# EAGLE library part SSW-112-02-S-T (library con-samtec)
THROUGH-HOLE .025" SQ POST SOCKET Source: Samtec SSW.pdf
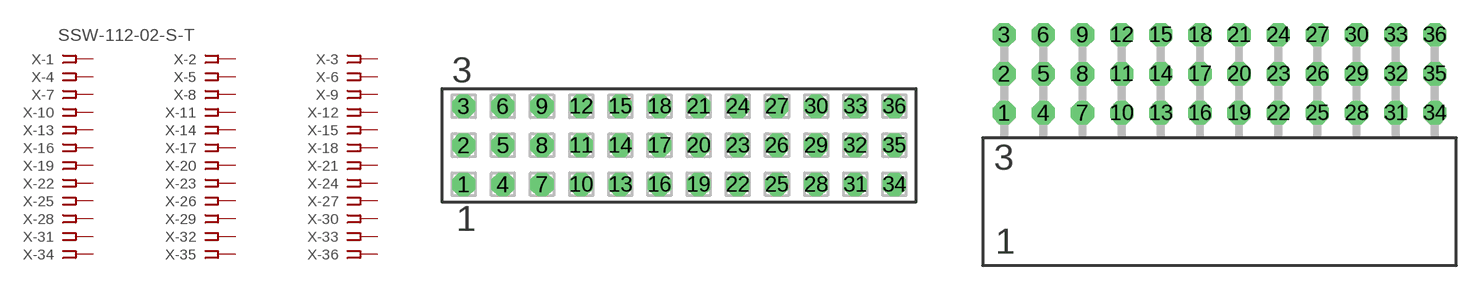
[diagram p44: symbol with the pads of SSW-112-02-S-T; footprints SSW-112-02-S-T, SSW-112-02-S-T-RA]

Designator prefix X; gates -1=FPINV -2=FPIN -3=FPIN -4=FPIN -5=FPIN -6=FPIN -7=FPIN -8=FPIN -9=FPIN -10=FPIN -11=FPIN -12=FPIN -13=FPIN -14=FPIN -15=FPIN -16=FPIN -17=FPIN -18=FPIN -19=FPIN -20=FPIN -21=FPIN -22=FPIN -23=FPIN -24=FPIN -25=FPIN -26=FPIN -27=FPIN -28=FPIN -29=FPIN -30=FPIN -31=FPIN -32=FPIN -33=FPIN -34=FPIN -35=FPIN -36=FPIN

## SSW-112-02-S-T  [SSW-112-02-S-T]
1  -1:1  pas
2  -2:1  pas
3  -3:1  pas
4  -4:1  pas
5  -5:1  pas
6  -6:1  pas
7  -7:1  pas
8  -8:1  pas
9  -9:1  pas
10  -10:1  pas
11  -11:1  pas
12  -12:1  pas
13  -13:1  pas
14  -14:1  pas
15  -15:1  pas
16  -16:1  pas
17  -17:1  pas
18  -18:1  pas
19  -19:1  pas
20  -20:1  pas
21  -21:1  pas
22  -22:1  pas
23  -23:1  pas
24  -24:1  pas
25  -25:1  pas
26  -26:1  pas
27  -27:1  pas
28  -28:1  pas
29  -29:1  pas
30  -30:1  pas
31  -31:1  pas
32  -32:1  pas
33  -33:1  pas
34  -34:1  pas
35  -35:1  pas
36  -36:1  pas

## SSW-112-02-S-TRA  [SSW-112-02-S-T-RA]
Pads as for SSW-112-02-S-T

## Footprint SSW-112-02-S-T (pad centres in mm)
THROUGH-HOLE .025" SQ POST SOCKET Source: Samtec SSW.pdf
drill 1 pad 1.5 octagon: 1 -13.97,-2.54; 2 -13.97,0; 3 -13.97,2.54; 4 -11.43,-2.54; 5 -11.43,0; 6 -11.43,2.54; 7 -8.89,-2.54; 8 -8.89,0; 9 -8.89,2.54; 10 -6.35,-2.54; 11 -6.35,0; 12 -6.35,2.54; 13 -3.81,-2.54; 14 -3.81,0; 15 -3.81,2.54; 16 -1.27,-2.54; 17 -1.27,0; 18 -1.27,2.54; 19 1.27,-2.54; 20 1.27,0; 21 1.27,2.54; 22 3.81,-2.54; 23 3.81,0; 24 3.81,2.54; 25 6.35,-2.54; 26 6.35,0; 27 6.35,2.54; 28 8.89,-2.54; 29 8.89,0; 30 8.89,2.54; 31 11.43,-2.54; 32 11.43,0; 33 11.43,2.54; 34 13.97,-2.54; 35 13.97,0; 36 13.97,2.54

## Footprint SSW-112-02-S-T-RA (pad centres in mm)
THROUGH-HOLE .025" SQ POST SOCKET Source: Samtec SSW.pdf
drill 1 pad 1.5 octagon: 1 -13.97,1.524; 2 -13.97,4.064; 3 -13.97,6.604; 4 -11.43,1.524; 5 -11.43,4.064; 6 -11.43,6.604; 7 -8.89,1.524; 8 -8.89,4.064; 9 -8.89,6.604; 10 -6.35,1.524; 11 -6.35,4.064; 12 -6.35,6.604; 13 -3.81,1.524; 14 -3.81,4.064; 15 -3.81,6.604; 16 -1.27,1.524; 17 -1.27,4.064; 18 -1.27,6.604; 19 1.27,1.524; 20 1.27,4.064; 21 1.27,6.604; 22 3.81,1.524; 23 3.81,4.064; 24 3.81,6.604; 25 6.35,1.524; 26 6.35,4.064; 27 6.35,6.604; 28 8.89,1.524; 29 8.89,4.064; 30 8.89,6.604; 31 11.43,1.524; 32 11.43,4.064; 33 11.43,6.604; 34 13.97,1.524; 35 13.97,4.064; 36 13.97,6.604